# Altium footprint library modules.pcblib: 3 footprints
Each footprint in its own frame and in the unit in brackets; x right, y up, seen from the top. Pads: shape width x height; smd on the part's side, far side on the other; paste and mask are expansions set on the pad; w line width, h text height; cw(c..) or ccw(c..) is an arc to the next point about the centre after c.
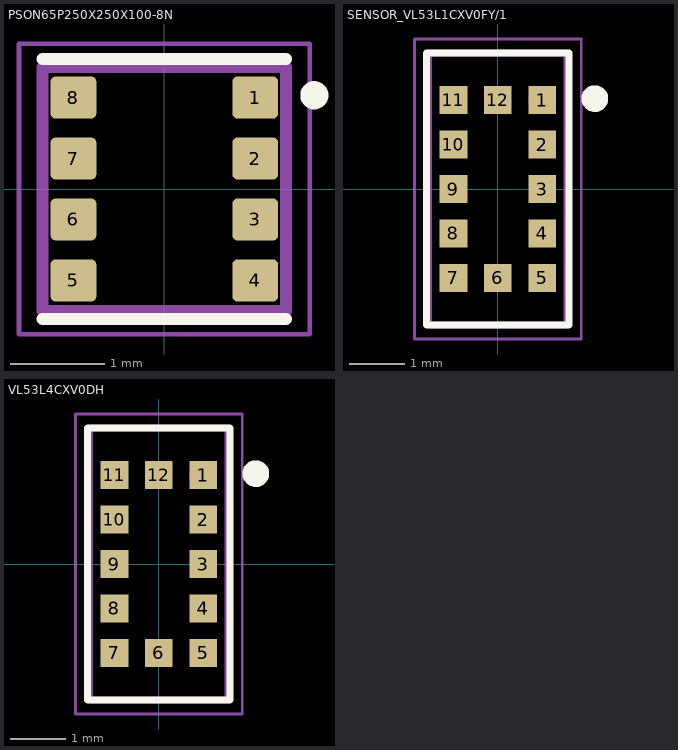
[diagram p0: the footprints below, top view; thin cyan lines are the x and y axes]

## PSON65P250X250X100-8N [mm]
pads (8):
  rrect25% 0.49x0.45 smd: 1(0.97,0.975) 2(0.97,0.325) 3(0.97,-0.325) 4(0.97,-0.975) 5(-0.97,-0.975) 6(-0.97,-0.325) 7(-0.97,0.325) 8(-0.97,0.975)
Top Overlay:
  circle w0.2: c1.6,1 r0.05
  lines w0.127: -1.3,-1.385 1.3,-1.385 ; -1.3,1.385 1.3,1.385
Plata3D:
  circle w0.2: c1,1 r0.05
  lines w0.127: -1.3,-1.3 1.3,-1.3 1.3,1.3 -1.3,1.3 -1.3,-1.3
Board3D:
  lines w0.05: -1.55,-1.55 -1.55,1.55 1.55,1.55 1.55,-1.55 -1.55,-1.55
3D body "BME280--3DModel-STEP-56544.STEP": height 1, standoff 0, extent -1.225,-1.275 1.275,1.225

## SENSOR_VL53L1CXV0FY/1 [mm]
pads (12):
  rect 0.5x0.5 smd: 1(0.8,1.6) 2(0.8,0.8) 3(0.8,0) 4(0.8,-0.8) 5(0.8,-1.6) 6(0,-1.6) 7(-0.8,-1.6) 8(-0.8,-0.8) 9(-0.8,0) 10(-0.8,0.8) 11(-0.8,1.6) 12(0,1.6)
Top Overlay:
  circle w0.24: c1.746,1.627 r0.12
  lines w0.127: -1.28,-2.45 1.28,-2.45 1.28,2.45 -1.28,2.45 -1.28,-2.45
Plata3D:
  circle w0.3: c0.8,1.6 r0.1
  lines w0.127: -1.25,-2.45 -1.25,2.45 1.25,2.45 1.25,-2.45 -1.25,-2.45
Board3D:
  lines w0.05: -1.5,-2.7 -1.5,2.7 1.5,2.7 1.5,-2.7 -1.5,-2.7
3D body "User Library-vl53l1x.STEP": height 1.46, standoff -0.13, extent -1.25,-2.45 1.25,2.45

## VL53L4CXV0DH [mm]
pads (12):
  rect 0.5x0.5 smd: 1(0.8,1.6) 2(0.8,0.8) 3(0.8,0) 4(0.8,-0.8) 5(0.8,-1.6) 6(0,-1.6) 7(-0.8,-1.6) 8(-0.8,-0.8) 9(-0.8,0) 10(-0.8,0.8) 11(-0.8,1.6) 12(0,1.6)
Top Overlay:
  circle w0.24: c1.746,1.627 r0.12
  lines w0.127: -1.28,-2.45 -1.28,2.45 1.28,2.45 1.28,-2.45 -1.28,-2.45
Plata3D:
  circle w0.3: c0.8,1.6 r0.1
  lines w0.127: -1.25,-2.45 1.25,-2.45 1.25,2.45 -1.25,2.45 -1.25,-2.45
Board3D:
  lines w0.05: -1.5,-2.7 1.5,-2.7 1.5,2.7 -1.5,2.7 -1.5,-2.7
3D body "LGA12_VL53L4CXV9DH1_STM.step": height 1.04, standoff 0, extent -1.219,-2.222 1.219,2.222